# Altium footprint library TO-220AB_Heatsink3.7.PcbLib: 1 footprints
Each footprint in its own frame and in the unit in brackets; x right, y up, seen from the top. Pads: shape width x height; smd on the part's side, far side on the other; paste and mask are expansions set on the pad; w line width, h text height; cw(c..) or ccw(c..) is an arc to the next point about the centre after c.
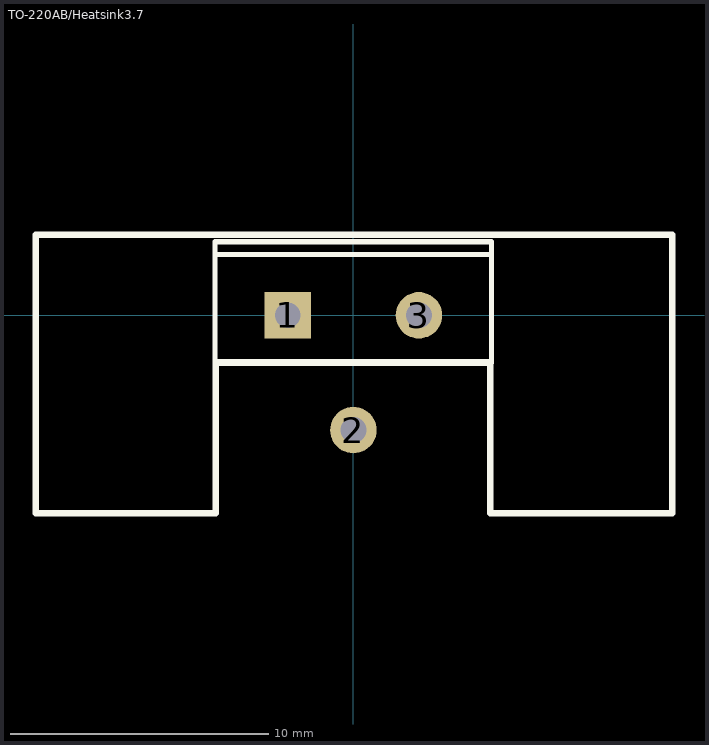
[diagram p0: the footprint, top view; thin cyan lines are the x and y axes]

## TO-220AB/Heatsink3.7 [mm] "TO-220AB w/ 3.7K/W PCB mount heatsink"
height 38.1
pads (3):
  rect 1.8x1.8 hole 1: 1(-2.54,0)
  round 1.8 hole 1: 2(0,-4.445) 3(2.54,0)
Top Overlay:
  lines w0.2: -5.35,-1.85 -5.35,2.85 ; -5.35,-1.85 5.35,-1.85 ; -5.35,-1.85 -5.35,2.85 ; -5.35,-1.85 5.35,-1.85 ; -5.35,2.85 5.35,2.85 ; 5.35,-1.85 5.35,2.85 ; 5.35,-1.85 5.35,2.85 ; -5.35,2.35 5.35,2.35 -5.35,2.35
  lines w0.254: -12.294,-7.671 -12.294,3.124 12.344,3.124 12.344,-7.671 5.309,-7.671 5.309,-1.829 -5.334,-1.829 -5.334,-7.671 -12.294,-7.671
3D body: height 12.3, standoff 4, extent -5.349,-1.849 5.349,2.349
3D body: height 19.5, standoff 4, extent -5.334,1.295 5.334,2.845
3D body: height 4, standoff -2, extent -2.972,-0.254 -2.108,0.229
3D body: height 4, standoff -2, extent 2.108,-0.254 2.972,0.229
3D body: height 3, standoff -2, extent -0.432,-4.699 0.432,-4.216
3D body: height 3.48, standoff 3, extent -0.432,-4.699 0.432,0
3D body: height 19.05, standoff 0, extent -12.214,-8.059 12.316,3.277